# Altium schematic symbol library 11SIM-0130652.Schlib: 1 symbol
Pins are listed as number, name and electrical type; pins without a type are passive.

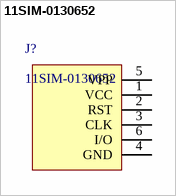
[diagram p0: symbol 11SIM-0130652]

## 11SIM-0130652
designator J?
pins: 1 VCC, 2 RST, 3 CLK, 4 GND, 5 VPP, 6 I/O